# Altium integrated library Pad ve Testpoint.IntLib: 1 symbol
Pins are listed as number, name and electrical type; pins without a type are passive.

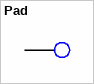
[diagram p0: symbol Pad]

## Pad
designator P?  (value not drawn)  (no BOM)
footprint Pad
pins: 1